# Altium footprint library Power.PcbLib: 7 footprints
Each footprint in its own frame and in the unit in brackets; x right, y up, seen from the top. Pads: shape width x height; smd on the part's side, far side on the other; paste and mask are expansions set on the pad; w line width, h text height; cw(c..) or ccw(c..) is an arc to the next point about the centre after c.
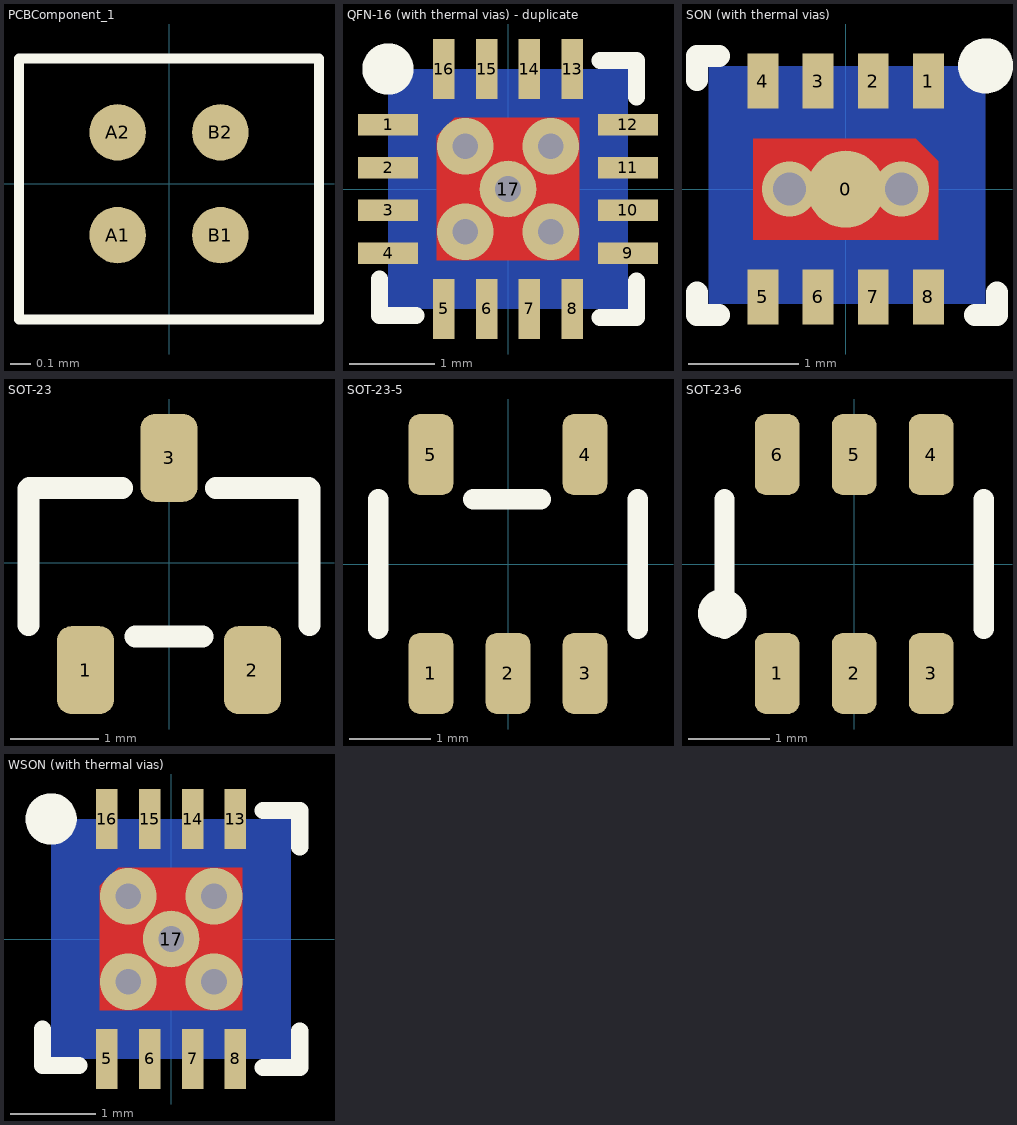
[diagram p0: the footprints below, top view; thin cyan lines are the x and y axes]

## PCBComponent_1 [mm]
pads (4):
  round 0.275 smd: A1(-0.25,-0.25) A2(-0.25,0.25) B1(0.25,-0.25) B2(0.25,0.25)
Top Overlay:
  lines w0.05: -0.73,-0.66 -0.73,0.61 0.73,0.61 0.73,-0.66 -0.73,-0.66
3D body: height 0.25, standoff -0.05, extent -0.398,-0.399 -0.1,-0.1
3D body: height 0.25, standoff -0.05, extent 0.102,-0.399 0.4,-0.1
3D body: height 0.25, standoff -0.05, extent 0.102,0.101 0.4,0.4
3D body: height 0.25, standoff -0.05, extent -0.398,0.101 -0.1,0.4
3D body: height 0.39, standoff 0.22, extent -0.73,-0.5 0.73,0.5

## QFN-16 (with thermal vias) - duplicate [mm] "DC/DC Buck Regulator"
height 1
pads (17):
  rect 0.7x0.25 smd paste-0.01: 1(-1.4,0.75) 2(-1.4,0.25) 3(-1.4,-0.25) 4(-1.4,-0.75) 9(1.4,-0.75) 10(1.4,-0.25) 11(1.4,0.25) 12(1.4,0.75)
  rect 0.25x0.7 smd paste-0.01: 5(-0.75,-1.4) 6(-0.25,-1.4) 7(0.25,-1.4) 8(0.75,-1.4) 13(0.75,1.4) 14(0.25,1.4) 15(-0.25,1.4) 16(-0.75,1.4)
  round 0.66 hole 0.3: 17(0,0)
via 0.5,0.5 diameter 0.66 hole 0.3
via 0.5,-0.5 diameter 0.66 hole 0.3
via -0.5,-0.5 diameter 0.66 hole 0.3
via -0.5,0.5 diameter 0.66 hole 0.3
Top Layer:
  region: -0.83,-0.83 -0.83,0.62 -0.62,0.83 0.83,0.83 0.83,-0.83
Bottom Layer:
  rectangle: -1.4,-1.4 1.4,1.4
Top Overlay:
  circle w0.3: c-1.4,1.4 r0.15
  lines w0.2: -1.5,-1.05 -1.5,-1.475 -1.075,-1.475 ; 1.075,-1.5 1.5,-1.5 1.5,-1.075 ; 1.075,1.5 1.5,1.5 1.5,1.075
Top Paste:
  circle w0.27: c0,0.5 r0.135
  circle w0.27: c0,-0.5 r0.135
  circle w0.27: c0.5,0 r0.135
  circle w0.27: c-0.5,0 r0.135
3D body: height 0.95, standoff 0.08, extent -1.5,-1.525 1.5,1.475

## SON (with thermal vias) [mm] "DC/DC LDO Buck Regulator"
height 1
pads (9):
  round 0.7 smd: 0(0,0)
  rect 0.28x0.5 smd paste-0.01: 1(0.75,0.98) 2(0.25,0.98) 3(-0.25,0.98) 4(-0.75,0.98) 5(-0.75,-0.978) 6(-0.25,-0.978) 7(0.25,-0.978) 8(0.75,-0.978)
via 0.508,0 diameter 0.5 hole 0.3
via -0.508,0 diameter 0.5 hole 0.3
Top Layer:
  region: 0.838,-0.457 0.838,0.254 0.635,0.457 -0.838,0.457 -0.838,-0.457
Bottom Layer:
  rectangle: -1.245,-1.041 1.27,1.118
Top Overlay:
  circle w0.3: c1.27,1.118 r0.1
  lines w0.2: -1.348,-0.937 -1.348,-1.142 -1.148,-1.142 ; -1.348,0.988 -1.348,1.208 -1.148,1.208 ; 1.173,-1.142 1.373,-1.142 1.373,-0.936
3D body: height 0.95, standoff 0.08, extent -1.067,-1.041 1.033,1.059

## SOT-23 [mm] "AP7333xx Package Linear Regulator"
height 1.35
pads (3):
  rrect50% 0.65x1 smd: 1(-0.95,-1.223) 2(0.95,-1.223) 3(0,1.194)
Top Overlay:
  lines w0.25: -1.6,-0.711 -1.6,0.838 ; -1.588,0.851 -0.533,0.851 ; -0.381,-0.838 0.381,-0.838 ; 0.533,0.851 1.588,0.851 1.6,0.838 1.6,-0.711
3D body: height 1.35, standoff 0.1, extent -1.486,-0.711 1.486,0.711

## SOT-23-5 [mm] "TPS736xx DBV Package Linear Regulator"
height 1.45
pads (5):
  rrect50% 0.55x1 smd: 1(-0.95,-1.35) 2(0,-1.35) 3(0.95,-1.35) 4(0.95,1.35) 5(-0.95,1.35)
Top Overlay:
  lines w0.25: -1.6,-0.8 -1.6,0.8 ; -0.432,0.8 0.406,0.8 ; 1.6,-0.8 1.6,0.8
3D body: height 1.45, standoff 0.1, extent -1.5,-0.8 1.5,0.8

## SOT-23-6 [mm] "SOT package 6 pads"
height 1.45
pads (6):
  rrect50% 0.55x1 smd: 1(-0.95,-1.35) 2(0,-1.35) 3(0.95,-1.35) 4(0.95,1.35) 5(0,1.35) 6(-0.95,1.35)
Top Overlay:
  circle w0.3: c-1.626,-0.61 r0.15
  lines w0.25: -1.6,-0.8 -1.6,0.8 ; 1.6,-0.8 1.6,0.8
3D body: height 1.45, standoff 0.1, extent -1.5,-0.8 1.5,0.8

## WSON (with thermal vias) [mm] "DC/DC LDO Buck Regulator"
height 1
pads (9):
  rect 0.25x0.7 smd paste-0.01: 5(-0.75,-1.4) 6(-0.25,-1.4) 7(0.25,-1.4) 8(0.75,-1.4) 13(0.75,1.4) 14(0.25,1.4) 15(-0.25,1.4) 16(-0.75,1.4)
  round 0.66 hole 0.3: 17(0,0)
via -0.5,0.5 diameter 0.66 hole 0.3
via -0.5,-0.5 diameter 0.66 hole 0.3
via 0.5,-0.5 diameter 0.66 hole 0.3
via 0.5,0.5 diameter 0.66 hole 0.3
Top Layer:
  region: -0.83,-0.83 -0.83,0.62 -0.62,0.83 0.83,0.83 0.83,-0.83
Bottom Layer:
  rectangle: -1.4,-1.4 1.4,1.4
Top Overlay:
  circle w0.3: c-1.4,1.4 r0.15
  lines w0.2: -1.5,-1.05 -1.5,-1.475 -1.075,-1.475 ; 1.075,-1.5 1.5,-1.5 1.5,-1.075 ; 1.075,1.5 1.5,1.5 1.5,1.075
Top Paste:
  circle w0.27: c-0.5,0 r0.135
  circle w0.27: c0.5,0 r0.135
  circle w0.27: c0,-0.5 r0.135
  circle w0.27: c0,0.5 r0.135
3D body: height 0.95, standoff 0.08, extent -1.5,-1.525 1.5,1.475